# EAGLE library part P2068S-A (library epic)
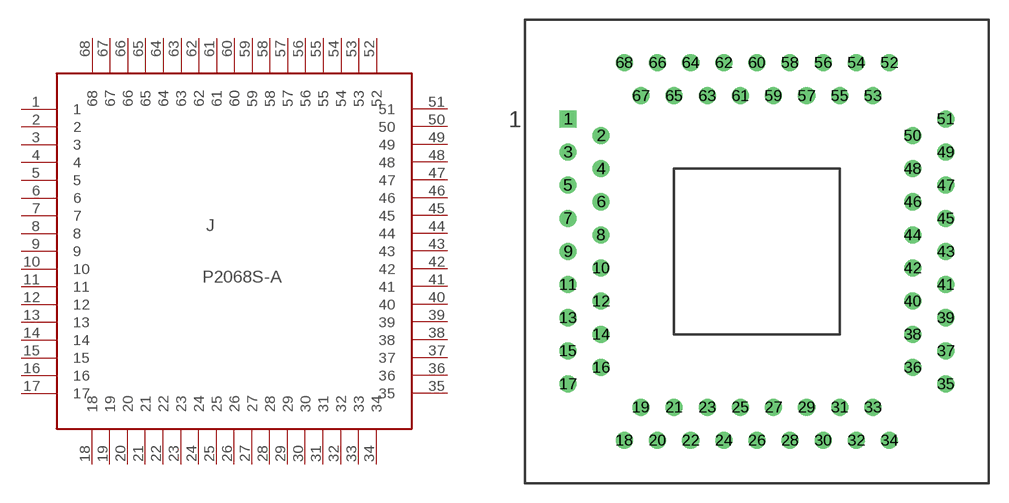
[diagram p1: symbol with the pads of P2068S-A; footprint P2068S-A]

Designator prefix J

## P2068S-A  [P2068S-A]
1  1
2  2
3  3
4  4
5  5
6  6
7  7
8  8
9  9
10  10
11  11
12  12
13  13
14  14
15  15
16  16
17  17
18  18
19  19
20  20
21  21
22  22
23  23
24  24
25  25
26  26
27  27
28  28
29  29
30  30
31  31
32  32
33  33
34  34
35  35
36  36
37  37
38  38
39  39
40  40
41  41
42  42
43  43
44  44
45  45
46  46
47  47
48  48
49  49
50  50
51  51
52  52
53  53
54  54
55  55
56  56
57  57
58  58
59  59
60  60
61  61
62  62
63  63
64  64
65  65
66  66
67  67
68  68

## Footprint P2068S-A (pad centres in mm)
drill 0.8 square: 1 -14.478,10.16
drill 0.8: 2 -11.938,8.89; 3 -14.478,7.62; 4 -11.938,6.35; 5 -14.478,5.08; 6 -11.938,3.81; 7 -14.478,2.54; 8 -11.938,1.27; 9 -14.478,0; 10 -11.938,-1.27; 11 -14.478,-2.54; 12 -11.938,-3.81; 13 -14.478,-5.08; 14 -11.938,-6.35; 15 -14.478,-7.62; 16 -11.938,-8.89; 17 -14.478,-10.16; 18 -10.16,-14.478; 19 -8.89,-11.938; 20 -7.62,-14.478; 21 -6.35,-11.938; 22 -5.08,-14.478; 23 -3.81,-11.938; 24 -2.54,-14.478; 25 -1.27,-11.938; 26 0,-14.478; 27 1.27,-11.938; 28 2.54,-14.478; 29 3.81,-11.938; 30 5.08,-14.478; 31 6.35,-11.938; 32 7.62,-14.478; 33 8.89,-11.938; 34 10.16,-14.478; 35 14.478,-10.16; 36 11.938,-8.89; 37 14.478,-7.62; 38 11.938,-6.35; 39 14.478,-5.08; 40 11.938,-3.81; 41 14.478,-2.54; 42 11.938,-1.27; 43 14.478,0; 44 11.938,1.27; 45 14.478,2.54; 46 11.938,3.81; 47 14.478,5.08; 48 11.938,6.35; 49 14.478,7.62; 50 11.938,8.89; 51 14.478,10.16; 52 10.16,14.478; 53 8.89,11.938; 54 7.62,14.478; 55 6.35,11.938; 56 5.08,14.478; 57 3.81,11.938; 58 2.54,14.478; 59 1.27,11.938; 60 0,14.478; 61 -1.27,11.938; 62 -2.54,14.478; 63 -3.81,11.938; 64 -5.08,14.478; 65 -6.35,11.938; 66 -7.62,14.478; 67 -8.89,11.938; 68 -10.16,14.478